# Altium footprint library SOD-523.PcbLib: 1 footprints
Each footprint in its own frame and in the unit in brackets; x right, y up, seen from the top. Pads: shape width x height; smd on the part's side, far side on the other; paste and mask are expansions set on the pad; w line width, h text height; cw(c..) or ccw(c..) is an arc to the next point about the centre after c.
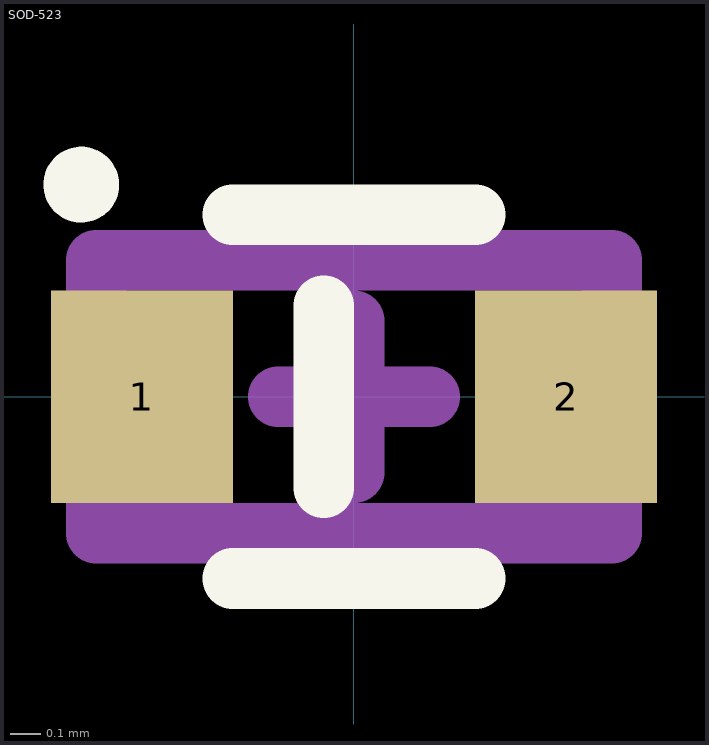
[diagram p0: the footprint, top view; thin cyan lines are the x and y axes]

## SOD-523 [mm]
pads (2):
  rect 0.6x0.7 smd paste+0 mask+0.051: 1(-0.7,0) 2(0.7,0)
Top Overlay:
  circle w0.15: c-0.9,0.7 r0.05
  lines w0.2: -0.4,-0.6 0.4,-0.6 ; -0.4,0.6 0.4,0.6 ; -0.1,-0.3 -0.1,0.3
Top Designator:
  text ".Designator" at -7.63,-0.47 h1.52
3D Body:
  lines w0.2: -0.85,-0.45 -0.85,-0.425 -0.85,0.45 0.85,0.45 0.85,-0.45 -0.85,-0.45
Center Cross:
  lines w0.2: -0.25,0 0,0 ; 0.25,0 0,0 ; 0,0 0,-0.25 0,0.25 0,0
3D body "SOD-523.stp": height 0.7, standoff 0, extent -0.85,-0.45 0.85,0.45